# EAGLE library part MC14021BCP (library User-Submitted)
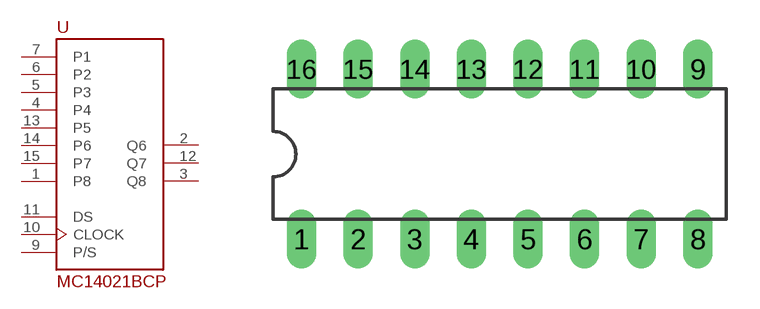
[diagram p27: symbol with the pads of DIL16; footprint DIL16]

Designator prefix -

## MC14021BCP  [DIL16]
1  P8  in
2  Q6  out
3  Q8  out
4  P4  in
5  P3  in
6  P2  in
7  P1  in
9  P/S  in
10  CLOCK  in
11  DS  in
12  Q7  out
13  P5  in
14  P6  in
15  P7  in

## Footprint DIL16 (pad centres in mm)
Dual In Line Package
drill 0.813 long: 1 -8.89,-3.81; 2 -6.35,-3.81; 3 -3.81,-3.81; 4 -1.27,-3.81; 5 1.27,-3.81; 6 3.81,-3.81; 7 6.35,-3.81; 8 8.89,-3.81; 9 8.89,3.81; 10 6.35,3.81; 11 3.81,3.81; 12 1.27,3.81; 13 -1.27,3.81; 14 -3.81,3.81; 15 -6.35,3.81; 16 -8.89,3.81